# EAGLE library part BQ24193RGER (library Eagle_CAD_parts)
The bq24193 is a highly-integrated switch-mode battery charge management and system power path management device for single cell Li-Ion and Lipolymer batteries in a wide range of tablet and other portable devices
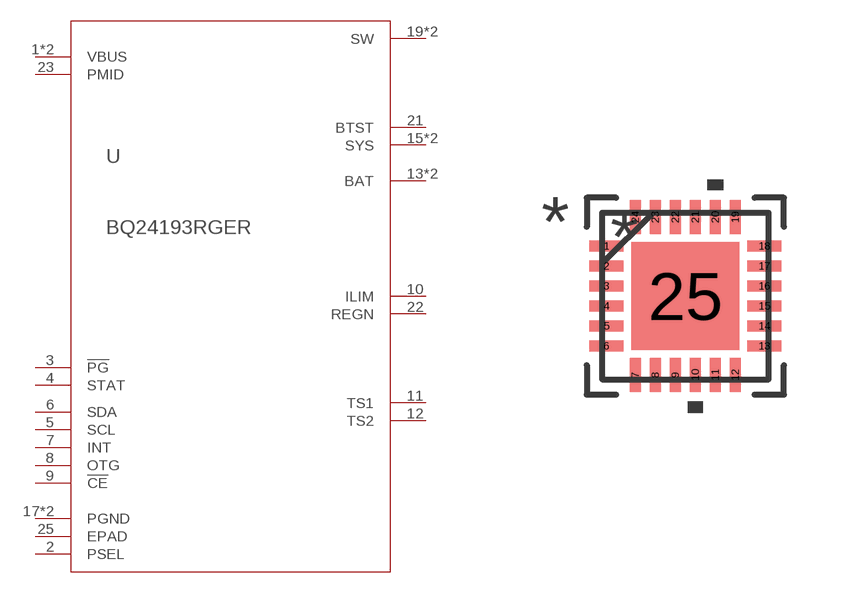
[diagram p19: symbol with the pads of 24-VQFN; footprint 24-VQFN]

Designator prefix U

## BQ24193RGER  [24-VQFN]
1  VBUS  pwr
2  PSEL  in
3  !PG  out
4  STAT  out
5  SCL  in
6  SDA
7  INT  out
8  OTG  in
9  !CE  in
10  ILIM  in
11  TS1  in
12  TS2  in
13  BAT  pwr
14  BAT  pwr
15  SYS  pwr
16  SYS  pwr
17  PGND  pwr
18  PGND  pwr
19  SW  out
20  SW  out
21  BTST  pwr
22  REGN  pwr
23  PMID  out
24  VBUS  pwr
25  EPAD  pas

## Footprint 24-VQFN (pad centres in mm)
smd 0.85 x 0.28: 1 -1.975,1.25; 2 -1.975,0.75; 3 -1.975,0.25; 4 -1.975,-0.25; 5 -1.975,-0.75; 6 -1.975,-1.25; 13 1.975,-1.25; 14 1.975,-0.75; 15 1.975,-0.25; 16 1.975,0.25; 17 1.975,0.75; 18 1.975,1.25
smd 0.28 x 0.85: 7 -1.25,-1.975; 8 -0.75,-1.975; 9 -0.25,-1.975; 10 0.25,-1.975; 11 0.75,-1.975; 12 1.25,-1.975; 19 1.25,1.975; 20 0.75,1.975; 21 0.25,1.975; 22 -0.25,1.975; 23 -0.75,1.975; 24 -1.25,1.975
smd 2.7 x 2.7: 25 0,0